# Altium schematic symbol library B105rlc.SchLib: 31 symbols
Pins are listed as number, name and electrical type; pins without a type are passive.

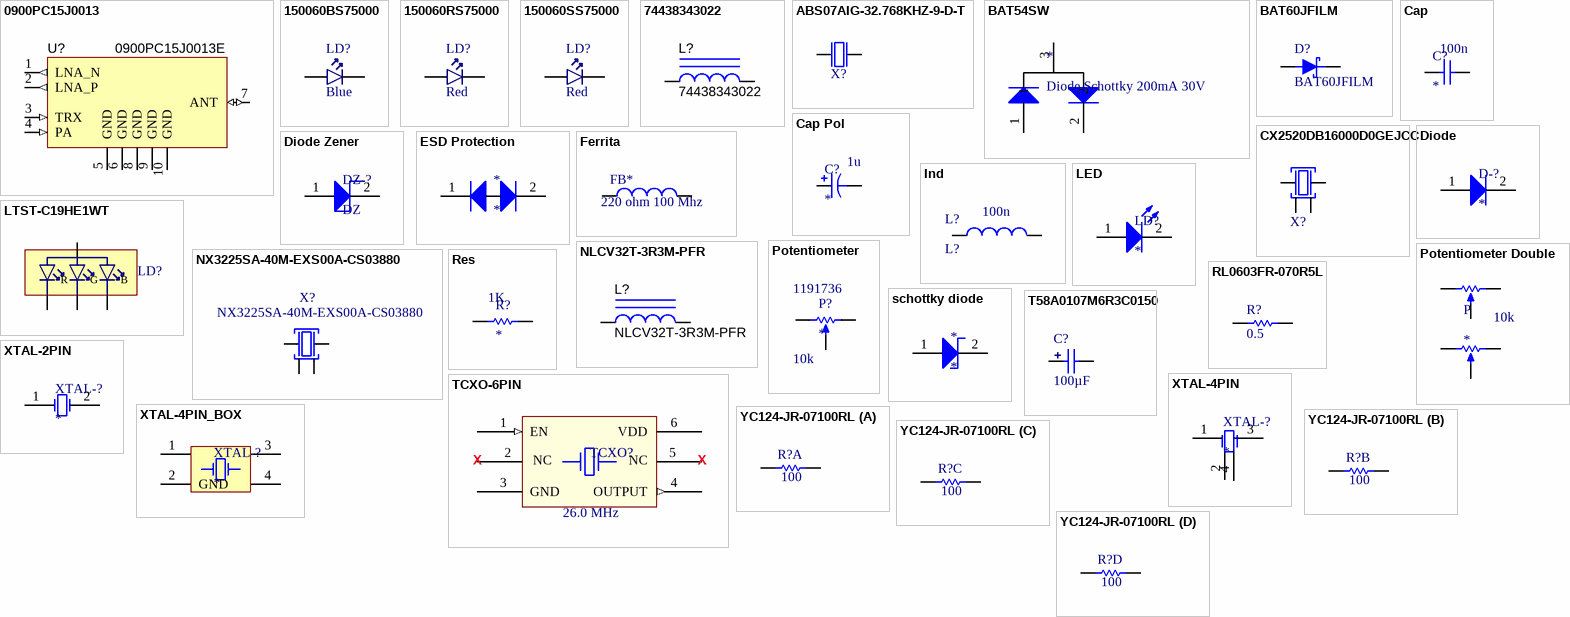
[diagram p0: symbols 0900PC15J0013 to YC124-JR-07100RL]

## 0900PC15J0013
designator U?, comment 0900PC15J0013E
868/915MHz Impedance Matched, Multi-Function, Integrated Ceramic Passive  Component for Texas Instruments CC112x, CC117x & CC12xx Chipsets; Manufacturer: Johanson Technology; CompType: Match filter; Frequency Range: 868MHz ~ 928MHz; Phase Difference: 180° ±15; Insertion Loss (Max): 2.0dB; Return Loss (Min): 9.5dB; PartNumber: 0900PC15J0013; MountType: SMT; ComponentLink1Description: Datasheet Link; ComponentLink1URL: http://www.johansontechnology.com/datasheets/highly-integrated-passive-components/0900PC15J0013.pdf; RoHS: Y; Supplier 1: Digi-Key; Supplier Part Number 1: 712-1570-1-ND; Manufacturer Part Number: 0900PC15J0013E; Packaging: Cut Tape (CT); Package / Case: 0805 (2012 Metric), 10 PC Pad; Mounting Type: Surface Mount; Supplier 2: Mouser; Supplier Part Number 2: 609-0900PC15J0013E; Supplier 3: Farnell; Supplier Part Number 3: 2341894
footprint 0900PC15J0013
pins: 1 LNA_N (out), 2 LNA_P (out), 3 TRX (in), 4 PA (in), 5 GND (power), 6 GND (power), 7 ANT (io), 8 GND (power), 9 GND (power), 10 GND (power)

## 150060BS75000
designator LD?, comment Blue
LED BLUE CLEAR 0603 SMD; Manufacturer: Wurth Electronics Inc.; Manufacturer Part Number: 150060BS75000; Lens Color: Colorless; Millicandela Rating: 145mcd; Lens Style/Size: Rectangle with Flat Top, 1.10mm x 0.70mm; Voltage - Forward (Vf) (Typ): 3.2V; Current - Test: 20mA; Viewing Angle: 140°; Wavelength - Dominant: 470nm; Wavelength - Peak: 465nm; Supplier 1: Digi-Key; Supplier Part Number 1: 732-4966-1-ND; RoHS: RoHS Compliant; Category: Optoelectronics; Stock 1: 20952; Pricing 1: 1=0.28, 50=0.2448, 100=0.2237, 500=0.20274, 1000=0.18875 (EUR); Packaging: Cut Tape (CT); Part Status: Active; Color: Blue; Lens Transparency: Clear; Mounting Type: Surface Mount; Features: -; Package / Case: 0603 (1608 Metric); Supplier Device Package: 0603; Size / Dimension: 1.60mm L x 0.80mm W; Height (Max): 0.80mm; ComponentLink1URL: http://katalog.we-online.de/led/datasheet/150060BS75000.pdf; ComponentLink1Description: http://katalog.we-online.de/led/datasheet/150060BS75000.pdf; Supplier 2: Mouser; Supplier Part Number 2: 710-150060BS75000; Supplier 3: Farnell; Supplier Part Number 3: 2322069; Supplier 4: RSComponents; Supplier Part Number 4: 8154206
footprint LED-0603-BLUE
pins: A, K

## 150060RS75000
designator LD?, comment Red
LED RED CLEAR 0603 SMD; Manufacturer: Wurth Electronics Inc.; Manufacturer Part Number: 150060RS75000; Lens Color: Colorless; Millicandela Rating: 250mcd; Lens Style/Size: Rectangle with Flat Top, 1.10mm x 0.70mm; Voltage - Forward (Vf) (Typ): 2V; Current - Test: 20mA; Viewing Angle: 140°; Wavelength - Dominant: 625nm; Wavelength - Peak: 630nm; Supplier 1: Digi-Key; Supplier Part Number 1: 732-4978-1-ND; RoHS: RoHS Compliant; Category: Optoelectronics; Stock 1: 28940; Pricing 1: 1=0.26, 50=0.226, 100=0.2065, 500=0.18714, 1000=0.17423 (EUR); Packaging: Cut Tape (CT); Part Status: Active; Color: Red; Lens Transparency: Clear; Mounting Type: Surface Mount; Features: -; Package / Case: 0603 (1608 Metric); Supplier Device Package: 0603; Size / Dimension: 1.60mm L x 0.80mm W; Height (Max): 0.80mm; ComponentLink1URL: http://katalog.we-online.de/led/datasheet/150060RS75000.pdf; ComponentLink1Description: http://katalog.we-online.de/led/datasheet/150060RS75000.pdf; Supplier 2: Mouser; Supplier Part Number 2: 710-150060RS75000; Supplier 3: Farnell; Supplier Part Number 3: 2322071; Supplier 4: RSComponents; Supplier Part Number 4: 8154203
footprint LED-0603-RED
pins: A, K

## 150060SS75000
designator LD?, comment Red
LED RED CLEAR 0603 SMD; Manufacturer: Wurth Electronics Inc.; Manufacturer Part Number: 150060SS75000; Lens Color: Colorless; Millicandela Rating: 60mcd; Lens Style/Size: Rectangle with Flat Top, 1.10mm x 0.70mm; Voltage - Forward (Vf) (Typ): 1.9V; Current - Test: 20mA; Viewing Angle: 140°; Wavelength - Dominant: 630nm; Wavelength - Peak: 645nm; Supplier 1: Digi-Key; Supplier Part Number 1: 732-4979-1-ND; RoHS: RoHS Compliant; Category: Optoelectronics; Stock 1: 3058; Pricing 1: 1=0.26, 50=0.226, 100=0.2065, 500=0.18714, 1000=0.17423 (EUR); Packaging: Cut Tape (CT); Part Status: Active; Color: Red; Lens Transparency: Clear; Mounting Type: Surface Mount; Features: -; Package / Case: 0603 (1608 Metric); Supplier Device Package: 0603; Size / Dimension: 1.60mm L x 0.80mm W; Height (Max): 0.80mm; ComponentLink1URL: http://katalog.we-online.de/led/datasheet/150060SS75000.pdf; ComponentLink1Description: http://katalog.we-online.de/led/datasheet/150060SS75000.pdf; Supplier 2: Mouser; Supplier Part Number 2: 710-150060SS75000; Supplier 3: Farnell; Supplier Part Number 3: 2322072; Supplier 4: RSComponents; Supplier Part Number 4: 8154212
footprint LED-0603-RED
pins: A, K

## 74438343022
designator L?
Inductor, Wirewound, Ferrite, 2.2uH, 1.1A, 0.225 ohm, SMD; Manufacturer: Wurth Electronics Inc.; Ind_H: 2.2E-6; ValueDisplayed: 2.2µH; Imax_A: 1.1; Irms: 1.1A @ 20C rise; Isat: 2.5A @ 20% inductance drop; DCR_ohm: 0.225; CompType: Inductor; Value: 2.2uH; Value1: 0.225 ohm; Value2: 1.1A; Technology: Wirewound; MountType: SMT; Material: Ferrite; PackageReference: 2x1.6x1mm; ComponentLink1Description: Datasheet link; ComponentLink1URL: http://katalog.we-online.de/pbs/datasheet/74438343022.pdf; RoHS: Y; Supplier 1: Digi-Key; Supplier Part Number 1: 732-5709-1-ND; Supplier 2: Mouser; Supplier Part Number 2: 710-74438343022; Supplier 3: Farnell; Supplier Part Number 3: 2448594; Manufacturer Part Number: 74438343022; Supplier 4: RSComponents; Supplier Part Number 4: 8630851
signal-integrity model Inductor
simulation model Inductor
footprint WE-MAPI
pins: 1, 2

## ABS07AIG-32.768KHZ-9-D-T
designator X?  (value not drawn)
CRYSTAL 32.768KHZ 9PF SMD; Manufacturer: Abracon LLC; Frequency Tolerance: ±20ppm; ESR (Equivalent Series Resistance): 70 kOhm; Operating Mode: Fundamental; Supplier 1: Digi-Key; Supplier Part Number 1: 535-13357-1-ND; Manufacturer Part Number: ABS07AIG-32.768KHZ-9-D-T; RoHS: RoHS Compliant; Category: Crystals, Oscillators, Resonators; Packaging: Cut Tape (CT); Part Status: Active; Type: kHz Crystal (Tuning Fork); Frequency: 32.768kHz; Frequency Stability: -; Load Capacitance: 9pF; Operating Temperature: -40°C ~ 85°C; Ratings: AEC-Q200; Mounting Type: Surface Mount; Package / Case: 2-SMD, No Lead; Size / Dimension: 0.126" L x 0.059" W (3.20mm x 1.50mm); ComponentLink1URL: http://www.abracon.com/AIGcrystals/ABS07AIG.pdf; ComponentLink1Description: http://www.abracon.com/AIGcrystals/ABS07AIG.pdf; Supplier 2: Mouser; Supplier Part Number 2: 815-S07AIG-32.7689DT; Supplier 3: Farnell; Supplier Part Number 3: 1924982; Stock: 20000; Pricing: 1=0.62, 10=0.519, 50=0.467, 100=0.415, 500=0.39426, 1000=0.332 (EUR); Height - Seated (Max): 0.035" (0.90mm)
footprint XTAL_3215
pins: 1 inp, 2 out

## BAT54SW
designator *, comment Diode Schottky 200mA 30V
footprint SOT-323-3-SC70 (TSOP, 3-Leads, Body 2,03x1,25mm, Pitch 0,65mm, IPC Medium Density)
pins: 1, 2, 3

## BAT60JFILM
designator D?
DIODE SCHOTTKY 10V 3A SOD323; Manufacturer: STMicroelectronics; Current - Average Rectified (Io): 3A (DC); Voltage - Forward (Vf) (Max) @ If: 580mV @ 1A; Speed: Fast Recovery =< 500ns, > 200mA (Io); Current - Reverse Leakage @ Vr: 6µA @ 10V; Supplier 1: Digi-Key; Supplier Part Number 1: 497-3707-1-ND; Manufacturer Part Number: BAT60JFILM; RoHS: RoHS Compliant; Category: Discrete Semiconductor Products; Packaging: Cut Tape (CT); Part Status: Active; Diode Type: Schottky; Voltage - DC Reverse (Vr) (Max): 10V; Reverse Recovery Time (trr): -; Capacitance @ Vr, F: -; Mounting Type: Surface Mount; Package / Case: SC-76, SOD-323; Supplier Device Package: SOD-323; Operating Temperature - Junction: 150°C (Max); ComponentLink1URL: http://www.st.com/web/en/resource/technical/document/datasheet/CD00001944.pdf; ComponentLink1Description: http://www.st.com/web/en/resource/technical/document/datasheet/CD00001944.pdf; Supplier 2: Mouser; Supplier Part Number 2: 511-BAT60JFILM; Supplier 3: Farnell; Supplier Part Number 3: 1467544
footprint SOD323
pins: 1 A, 2 C

## Cap
designator C?  value 100n
footprint 0402 CAP (Chip Capacitor, Body 1.0x0.5mm, IPC High Density)
footprint 0603 Cap (Chip Capacitor, Body 1.6x0.8mm, IPC High Density)
footprint 0805 CAP (Chip Capacitor, 2-Leads, Body 2,00x1,25mm, IPC Medium Density)
footprint 1206 CAP (Chip Capacitor, 2-Leads, Body 3,20x1,60mm, IPC Medium Density)
footprint 3216 Tantalum (Capacitor, SM Tantalum; Body 3.2 x 1.6 mm (LxW typ))
footprint 6032 Tantalum (Capacitor, SM Tantalum; Body 6.0 x 3.2 mm (LxW typ))
footprint 7343 tantalum (Capacitor, SM Tantalum; Body 7.3 x 4.3 mm (LxW typ))
footprint Cap-Poly-2.5x6.5x7.2mm
footprint Cap-Poly-3.5x8x7.2mm
footprint Cap-Poly-4.2x6.5x9mm
footprint 0201 CAP (Chip Capacitor, 2-Leads, Body 0,60x0,30mm, 0201, IPC Medium Density)
footprint 1210 CAP (Chip Capacitor, 2-Leads, Body 3,20x2,50mm, IPC Medium Density)
footprint CAP FILM - 7.3x4.5mm - 5mm pitch
pins: 1, 2

## Cap Pol
designator C?  value 1u
footprint Cap Pol 8x11.5 Pitch 3.5
footprint CAP POL 10x13 Pitch 5mm Low ESR
footprint CAP POL 6.3x11 Pitch 2.5mm
footprint CAP POL 6.3x9 Pitch 2.5mm Low ESR
footprint CAP POL 10x12.5 Pitch 5mm
footprint CAP POL 12.5x25mm Pitch 5mm
footprint CAP POL 5x11 Pitch 2mm
footprint CAP POL SMD_4mm (SMD POL CAP, 2-Leads, Body 4.30x4.30mm, IPC Medium Density)
footprint CAP POL SMD_6.3MM (Aluminum Electrolytic Capacitor, Body 6.60x6.60x5.40mm, IPC Low Density)
footprint CAP POL SMD 6.6x6.6 (Capacitor, SMD Aluminum; Body 6.6 x 6.6 mm (LxW typ))
footprint CAP POL 18x25mm Pitch 7.5mm - duplicate
footprint CAP POL 12.5x21mm Pitch 5mm
footprint CAP POL SMD 10 mm (Capacitor, SMD Aluminum; Body 6.6 x 6.6 mm (LxW typ))
footprint CAP POL SMD_5MM (Aluminum Electrolytic Capacitor, Body 6.60x6.60x5.40mm, IPC Low Density)
pins: 1, 2

## CX2520DB16000D0GEJCC
designator X?  (value not drawn)
CRYSTAL 16.0000MHZ 8PF SMD; Manufacturer: AVX Corp/Kyocera Corp; Frequency: 16MHz; Frequency Stability: ±15ppm; ESR (Equivalent Series Resistance): 80 Ohm; Operating Mode: Fundamental; Supplier 1: Digi-Key; Supplier Part Number 1: 1253-1122-1-ND; Manufacturer Part Number: CX2520DB16000D0GEJCC; RoHS: RoHS Compliant; Category: Crystals and Oscillators; Packaging: Cut Tape (CT); Part Status: Active; Type: MHz Crystal; Frequency Tolerance: ±15ppm; Load Capacitance: 8pF; Operating Temperature: -10°C ~ 70°C; Ratings: AEC-Q200; Mounting Type: Surface Mount; Package / Case: 4-SMD, No Lead (DFN, LCC); Size / Dimension: 0.098" L x 0.079" W (2.50mm x 2.00mm); Height: 0.022" (0.55mm); ComponentLink1URL: http://www.kyocera-crystal.jp/eng/wp-content/uploads/2015/10/cx2520db_e.pdf; ComponentLink1Description: http://www.kyocera-crystal.jp/eng/wp-content/uploads/2015/10/cx2520db_e.pdf; Supplier 2: Mouser; Supplier Part Number 2: 581-CX2520DB16DGEJCC; Supplier 3: Farnell; Supplier Part Number 3: 2469941
footprint XTAL_2520
pins: 1 inp, 2 (power), 3 out, 4 (power)

## Diode
designator D-?
footprint SOD-123 (SODFL, 2-Leads, Body 1,55x3,70mm, IPC Medium Density)
footprint DIODE SMC 30BQ040 (Molded Diode, 2-Leads, Body 6,85x5,90mm, IPC Medium Density)
footprint SOD-323
footprint SOD-123F (SODFL, 2-Leads, Body 1,72x3,60mm, IPC Medium Density)
pins: 1 A, 2 C

## Diode Zener
designator DZ-?, comment DZ
footprint SOD-123 (SODFL, 2-Leads, Body 1,55x3,70mm, IPC Medium Density)
footprint SOD-323
pins: 1 A, 2 C

## ESD Protection
designator *
footprint 0402 CAP (Chip Capacitor, Body 1.0x0.5mm, IPC High Density)
footprint SOD-323
pins: 1 C, 2 C

## Ferrita
designator FB*, comment 220 ohm 100 Mhz
INDUCTOR, 0.04OHM, 3A, 0805; Value: 220 ohm 100 Mhz
footprint 0805 Ind (Chip Capacitor, 2-Leads, Body 2,00x1,25mm, IPC Medium Density)
footprint 1612 Ferrite
footprint 0603 Ferrite (Chip Ferrite, Body 1.6x0.8mm, IPC High Density)
footprint 1206 RES (Chip Resistor, 2-Leads, Body 3,20x1,60mm, IPC Medium Density)
footprint 0402 IND (Chip Inductor, Body 1.0x0.5mm, IPC High Density)
pins: 1, 2

## Ind
designator L?, comment L?  value 100n
footprint 0603 IND (Chip Inductor, 2-Leads, Body 1,60x0,80mm, IPC Medium Density)
footprint IND-100uH-5.4A- Bourns (Precision Wire Wound Inductor, 2-Leads, Body 10,00x10,00mm, IPC Medium Density)
footprint IND-330uH-TYS6045331M
footprint IND-22uH-MCSD43-220MU
footprint IND-1UH-MPLCG0530L1R0
footprint IND-150uH-RFC1010B Coilcraft
footprint IND-47uH-RLB0914-8.7x12mm-Pitch 5mm
footprint 0402 IND (Chip Inductor, Body 1.0x0.5mm, IPC High Density)
footprint 0201 IND (Chip Inductor, 2-Leads, Body 0,60x0,30mm, 0201, IPC Medium Density)
footprint IND-2.2UH-IFSC1515AHER2R2M01 (Inductor, 2-Leads, Body 4,00x4,00mm, IPC Medium Density)
footprint 0806 Ind (Chip Inductor, 2-Leads, Body 2,00x1,6mm, IPC Medium Density)
footprint 0805 Ind (Chip Capacitor, 2-Leads, Body 2,00x1,25mm, IPC Medium Density)
footprint IND-2.2UH-4020 (Inductor, 2-Leads, Body 4,00x4,00mm, IPC Medium Density)
footprint IND-22uH-TAIYO-NR8040
footprint IND-1UH-SRN6045-1R0Y (Inductor, 2-Leads, Body 6,00x6,00mm, IPC Medium Density)
footprint IND-10U-CDEP147NP (14.5x14.5mm)
footprint IND-22uH-LAIRD-TYS6045
footprint 1210 IND (Chip Capacitor, 2-Leads, Body 3,20x2,50mm, IPC Medium Density)
pins: 1, 2

## LED
designator LD?
footprint 0603 LED-BLUE (LED, Body 1.6x0.8mm, IPC High Density)
footprint 0603 LED-Green (LED, Body 1.6x0.8mm, IPC High Density)
footprint 0603 LED-RED (LED, Body 1.6x0.8mm, IPC High Density)
footprint LED BLUE 3mm
footprint LED GREEN 3mm
footprint LED RED 3mm
footprint LED 5mm RA
footprint 0603 LED-YELLOW (LED, Body 1.6x0.8mm, IPC High Density)
pins: 1 A, 2 C

## LTST-C19HE1WT
designator LD?
SMD LED Red 615nm Grn 525nm/Blu 470nm; Manufacturer: Lite-On Inc.; Manufacturer Part Number: LTST-C19HE1WT; Color: Red, Green, Blue (RGB); Lens Color: White; Lens Transparency: Diffused; Millicandela Rating: 112.5mcd Red, 281mcd Green, 104mcd Blue; Lens Style/Size: Rectangle with Flat Top, 1.15mm x 1.60mm; Voltage - Forward (Vf) (Typ): 2.1V Red, 3.35V Green, 3.35V Blue; Current - Test: 20mA Red, 20mA Green, 20mA Blue; Viewing Angle: 130°; Wavelength - Dominant: 624nm Red, 525nm Green, 470nm Blue; Wavelength - Peak: 632nm Red, 520nm Green, 468nm Blue; Supplier 1: Digi-Key; Supplier Part Number 1: 160-2162-1-ND; RoHS: RoHS Compliant; Category: Optoelectronics; Packaging: Cut Tape (CT); Mounting Type: Surface Mount; Features: -; Package / Case: 0606 (1616 Metric); Size / Dimension: 1.60mm L x 1.60mm W; Height (Max): 0.35mm; ComponentLink1URL: http://optoelectronics.liteon.com/upload/download/DS22-2008-0044/S_110_LTST-C19HE1WT.pdf; ComponentLink1Description: http://optoelectronics.liteon.com/upload/download/DS22-2008-0044/S_110_LTST-C19HE1WT.pdf; Supplier 2: Mouser; Supplier Part Number 2: 859-LTST-C19HE1WT
footprint LED-0606-RGB
pins: 1 C1, 2 C2, 3 C3, 4 A
text: R; G; B

## NLCV32T-3R3M-PFR
designator L?
Inductor, Wirewound, Ferrite, 3.3uH, 1A, 0.16 ohm, SMD; Manufacturer: TDK; Ind_H: 3.3E-6; ValueDisplayed: 3.3µH; Imax_A: 1; Irms: 1A @ 20C rise; Isat: 1A @ 10% inductance drop; DCR_ohm: 0.16; SymbolVersion: 2008-07-23; CompType: Inductor; Value: 3.3uH; Value1: 0.16 ohm; Value2: 1A; Technology: Wirewound; MountType: SMT; Material: Ferrite; PackageReference: 3.2x2.2x2.5mm; Published: 2008-06-26; Publisher: Texas Instruments; LatestRevisionDate: 2014-05-19; ComponentLink1Description: Datasheet link; ComponentLink1URL: http://www.tdk.co.jp/tefe02/e511_nlcv_nlc.pdf; RoHS: Y; Supplier 1: Digi-Key; Supplier Part Number 1: 445-3651-1-ND; Supplier 2: Mouser; Supplier Part Number 2: 810-NLCV32T-3R3M-PFR; Supplier 3: Farnell; Supplier Part Number 3: 1844042; Manufacturer Part Number: NLCV32T-3R3M-PFR
signal-integrity model Inductor
simulation model Inductor
footprint NLCV32
pins: 1, 2

## NX3225SA-40M-EXS00A-CS03880
designator X?
CRYSTAL 40.0000MHZ 10PF SMD; Manufacturer: NDK; Frequency: 40MHz; Frequency Stability: ±17ppm; Frequency Tolerance: ±10ppm; ESR (Equivalent Series Resistance): 50 Ohm; Operating Mode: Fundamental; Supplier 1: Digi-Key; Manufacturer Part Number: NX3225SA-40M-EXS00A-CS03880; RoHS: RoHS Compliant; Category: Crystals and Oscillators; Stock 1: 787; Pricing 1: 1=0.65, 10=0.578, 50=0.5406, 100=0.4783, 500=0.45198, 1000=0.37783 (EUR); Packaging: Cut Tape (CT); Type: MHz Crystal; Load Capacitance: 10pF; Operating Temperature: -40°C ~ 85°C; Ratings: -; Mounting Type: Surface Mount; Package / Case: 4-SMD, No Lead (DFN, LCC); Size / Dimension: 0.126" L x 0.098" W (3.20mm x 2.50mm); Height: 0.024" (0.60mm); ComponentLink1URL: http://media.digikey.com/pdf/Data%20Sheets/NDK%20PDFs/NX3225SA-40M-EXS00A-CS03880.pdf; ComponentLink1Description: http://media.digikey.com/pdf/Data%20Sheets/NDK%20PDFs/NX3225SA-40M-EXS00A-CS03880.pdf; Supplier Part Number 1: 644-1249-1-ND; PartNumber: NX3225SA-40M-EXS00A-CS03880
footprint XTAL_3225
pins: 1 inp, 2 (power), 3 out, 4 (power)

## Potentiometer
designator P?  value 10k  Supplier Part Number 1: 1191736
Supplier 1: Farnell
footprint ALPS Potentiometer 10K
footprint Potentiometer CB10LV102
pins: 1, 2, 3

## Potentiometer Double
designator P  value 10k
footprint PTD902 Potentiometer 10K
pins: 1, 2, 3, 4, 5, 6

## Res
designator R?  value 1K
footprint 1206 RES (Chip Resistor, 2-Leads, Body 3,20x1,60mm, IPC Medium Density)
footprint 0.25W RES
footprint 0603 Res (Chip Resistor, Body 1.6x0.8mm, IPC High Density)
footprint 0805 Res (Chip Capacitor, 2-Leads, Body 2,0x1,3mm, IPC Medium Density)
footprint 0201 RES (Chip Resistor, 2-Leads, Body 0,60x0,30mm, 0201, IPC Medium Density)
footprint 0402 RES (Chip Resistor, Body 1.0x0.5mm, IPC High Density)
footprint 2512 RES
pins: 1, 2

## RL0603FR-070R5L
designator R?, comment 0.5
Res Current Sense 0603 0.5 ±1%; Manufacturer: Yageo; ManufacturerSeries: RL; Manufacturer PN: RL0603FR-070R5L; Tempco: ±800ppm/°C; Power: 1/10W; PkgCode: 0603; SpecialFeatures: Current Sense, Moisture Resistant; Value: 0.5; Tolerance: ±1%; ComponentLink1Description: Datasheet; ComponentLink1URL: http://www.yageo.com/documents/recent/PYu-RL_Group_521_RoHS_L%201.pdf; Height: 0.45mm; Temperature: 155°C; Supplier 1: Digi-Key; Supplier Part Number 1: 311-.5QCT-ND; Supplier 2: Mouser; Supplier Part Number 2: 603-RL0603FR070R5L; Manufacturer Part Number: RL0603FR-070R5L
footprint RESC0603(1608)_N (Chip Resistor, Body 1.6x0.8mm, IPC Medium Density)
footprint RESC0603(1608)_L (Chip Resistor, Body 1.6x0.8mm, IPC High Density)
footprint RESC0603(1608)_M (Chip Resistor, Body 1.6x0.8mm, IPC Low Density)
pins: 1, 2
1 alternate drawing of the same symbol

## schottky diode
designator *
footprint SMB
footprint SOD-323
pins: 1 A, 2 C

## T58A0107M6R3C0150
designator C?, comment 100µF
Cap 1206 100 µF ±5% 6.3V Tantalum; Manufacturer: Vishay Sprague; Manufacturer Part Number: T58A0107M6R3C0150; Manufacturer Size Code: A0; Tolerance: ±20%; Type: Molded; ESR (Equivalent Series Resistance): 150 mOhm; Lifetime @ Temp.: 1000 Hrs @ 85°C; Supplier 1: Digi-Key; Supplier Part Number 1: 718-2115-1-ND; ComponentLink1Description: http://www.vishay.com/docs/40189/t58.pdf; ComponentLink1URL: http://www.vishay.com/docs/40189/t58.pdf; RoHS: RoHS Compliant; Category: Capacitors; Stock 1: 2998; Pricing 1: 1=1.02, 10=0.806, 25=0.7388, 50=0.6986, 100=0.6045, 250=0.5374, 500=0.45678, 1000=0.40304 (EUR); Packaging: Cut Tape (CT); Part Status: Active; Capacitance: 100µF; Voltage - Rated: 6.3V; Operating Temperature: -55°C ~ 85°C; Mounting Type: Surface Mount; Package / Case: 1206 (3216 Metric); Size / Dimension: 0.126" L x 0.063" W (3.20mm x 1.60mm); Height - Seated (Max): 0.039" (1.00mm); Lead Spacing: -; Features: General Purpose; Supplier 2: Mouser; Supplier Part Number 2: 74-T58A0107M6R3C0150; Supplier 3: Farnell; Supplier Part Number 3: 2709195
footprint CAPC1206(3216)150POL_N (Chip Capacitor, Body 3.2x1.6mm, Height 1.5mm, IPC Medium Density)
footprint CAPC1206(3216)150POL_L (Chip Capacitor, Body 3.2x1.6mm, Height 1.5mm, IPC High Density)
footprint CAPC1206(3216)150POL_M (Chip Capacitor, Body 3.2x1.6mm, Height 1.5mm, IPC Low Density)
pins: 1, 2

## TCXO-6PIN
designator TCXO?  value 26.0 MHz  (hidden comment: *)
footprint ASTXR-12-26.000MHz-511741 (26MHz TCXO, 1.8V, Clipped sine wave 10KOhm/10pF, 2.5 x 2.0 x 0.8 mm SMD)
pins: 1 EN (in), 3 GND, 4 OUTPUT (out), 6 VDD
text: 2; 5; X; NC

## XTAL-2PIN
designator XTAL-?
footprint XTAL2PIN-5mmx3.2mm (Molded Capacitor, 2-Leads, Body 5,00x3,20mm, IPC Medium Density)
footprint Crsytal 11.5 x 3.5mm
footprint XTAL-4PIN-8x3.8MM (4-Leads, Body 8.00x3.80mm, Pitch 5.50mm)
footprint XTAL-2PIN-5x3.2mm (Molded Capacitor, 2-Leads, Body 5,00x3,20mm, IPC Medium Density)
footprint XTAL-2PIN-1.6mmx1mm (Chip XTAL 2-Leads, Body 1,60x1,00mm, IPC Medium Density)
footprint HC49S
pins: 1 OSC1, 2 OSC2

## XTAL-4PIN
designator XTAL-?
footprint XTAL-4PIN-3.2x5mm (XTAL-4PIN-3.2mmx5mm)
footprint XTAL-4PIN-3.2x2.5mm (XTAL-4PIN-3.2mmx2.5mm)
footprint XTAL-4PIN-2mmx1.6mm
footprint 7M-12.000MEEQ-T (DFN, 4-Leads, Body 2,50x3,20mm, Pitch 2,10mm, IPC Medium Density)
footprint XTAL-4PIN-8x3.8MM (4-Leads, Body 8.00x3.80mm, Pitch 5.50mm)
footprint XTAL-4PIN-5x3.2mm (XTAL-4PIN-3.2mmx2mm)
pins: 1 OSC1, 2 GND, 3 OSC2, 4 GND

## XTAL-4PIN_BOX
designator XTAL-?
footprint XTAL-4PIN-3.2x5mm (XTAL-4PIN-3.2mmx5mm)
footprint 7M-12.000MEEQ-T (DFN, 4-Leads, Body 2,50x3,20mm, Pitch 2,10mm, IPC Medium Density)
footprint XTAL-4PIN-2mmx1.6mm
footprint XTAL-4PIN-3.2x2.5mm (XTAL-4PIN-3.2mmx2.5mm)
footprint XTAL-4PIN-8x3.8MM (4-Leads, Body 8.00x3.80mm, Pitch 5.50mm)
footprint XTAL-4PIN-5x3.2mm (XTAL-4PIN-3.2mmx2mm)
pins: 1 OSC1, 2 GND, 3 OSC2, 4 GND

## YC124-JR-07100RL
designator R?, comment 100
RES ARRAY 4 RES 100 OHM 0804; Manufacturer: Yageo; Manufacturer Part Number: YC124-JR-07100RL; Circuit Type: Isolated; Tolerance: ±5%; Number of Resistors: 4; Power Per Element: 62.5mW; Temperature Coefficient: ±200ppm/°C; Supplier 1: Digi-Key; Supplier Part Number 1: YC124J-100CT-ND; RoHS: RoHS Compliant; Category: Resistors; Packaging: Cut Tape (CT); Resistance (Ohms): 100; Number of Pins: 8; Operating Temperature: -55°C ~ 155°C; Applications: DDRAM, SDRAM; Mounting Type: Surface Mount; Package / Case: 0804, Convex, Long Side Terminals; Supplier Device Package: -; Size / Dimension: 0.079" L x 0.039" W (2.00mm x 1.00mm); Height: 0.022" (0.55mm); ComponentLink1URL: http://www.yageo.com/NewPortal/yageodocoutput?fileName=/pdf/R-Chip/PYu-YC_TC_group_51_RoHS_L_2.pdf; ComponentLink1Description: http://www.yageo.com/NewPortal/yageodocoutput?fileName=/pdf/R-Chip/PYu-YC_TC_group_51_RoHS_L_2.pdf; Supplier 2: Mouser; Supplier Part Number 2: 603-YC124-JR-07100RL; Value: 100
footprint RESARRAY0804
part A pins: 1, 8
part B pins: 2, 7
part C pins: 3, 6
part D pins: 4, 5